# EAGLE library part SI7020_A10 (library 00_cody)
Surface QFN Temperature and humidity sensor with I2c connection
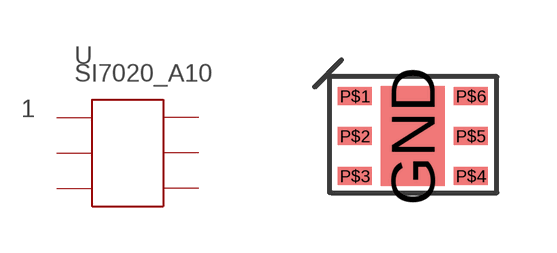
[diagram p151: symbol with the pads of SI7020-A10; footprint SI7020-A10]

Designator prefix -

## SI7020_A10  [SI7020-A10]
P$1  1_SDA
P$2  2_GND
P$3  3_NC
P$4  4_DNC
P$5  5_VDD
P$6  6_SCL

## Footprint SI7020-A10 (pad centres in mm)
smd 1.6 x 2.5: GND 0,0
smd 0.85 x 0.45: P$1 -1.45,1; P$2 -1.45,0; P$3 -1.45,-1; P$4 1.45,-1; P$5 1.45,0; P$6 1.45,1